# Altium schematic symbol library INA169QPWRQ1.SchLib: 2 symbols
Pins are listed as number, name and electrical type; pins without a type are passive.

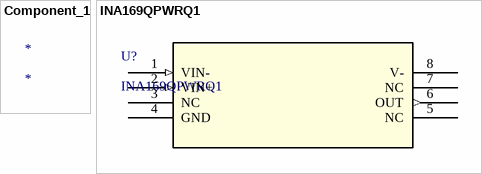
[diagram p0: symbols Component_1 to INA169QPWRQ1]

## Component_1
designator *
footprint PW8-M

## INA169QPWRQ1
designator U?
No Description Available; Mfr_Name: Texas Instruments; Copyright: Copyright (C) 2021 Ultra Librarian. All rights reserved.; Manufacturer_Part_Number: INA169QPWRQ1; RefDes: RefDes; Type: DEV
footprint PW8
pins: 1 VIN- (in), 2 VIN+ (in), 3 NC, 4 GND (power), 5 NC, 6 OUT (out), 7 NC, 8 V- (power)